# EAGLE library part MOTOR_DRIVER (library motor_driver)
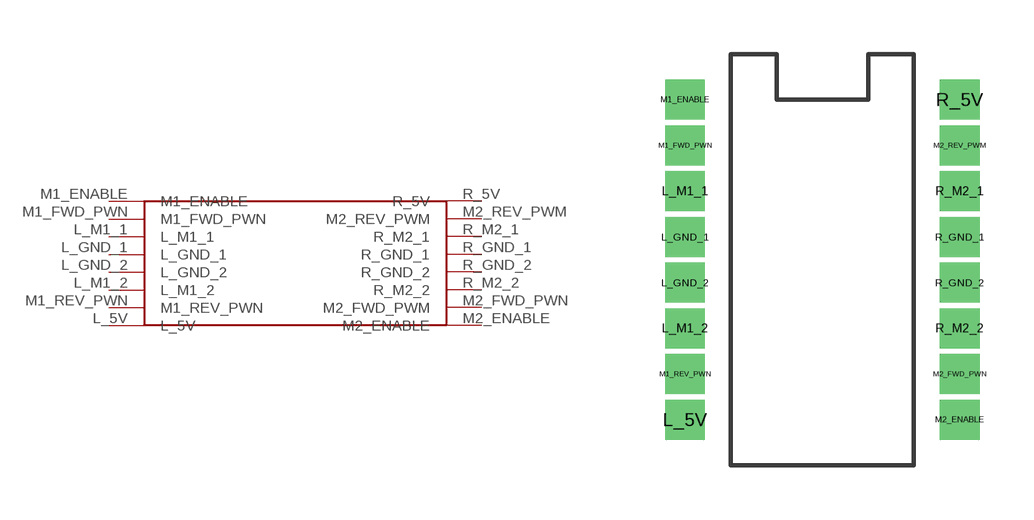
[diagram p0: symbol with the pads of MOTOR_DRIVER; footprint MOTOR_DRIVER]

Designator prefix -

## MOTOR_DRIVER  [MOTOR_DRIVER]
L_5V  L_5V
L_GND_1  L_GND_1
L_GND_2  L_GND_2
L_M1_1  L_M1_1
L_M1_2  L_M1_2
M1_ENABLE  M1_ENABLE
M1_FWD_PWN  M1_FWD_PWN
M1_REV_PWN  M1_REV_PWN
M2_ENABLE  M2_ENABLE
M2_FWD_PWN  M2_FWD_PWM
M2_REV_PWM  M2_REV_PWM
R_5V  R_5V
R_GND_1  R_GND_1
R_GND_2  R_GND_2
R_M2_1  R_M2_1
R_M2_2  R_M2_2

## Footprint MOTOR_DRIVER (pad centres in mm)
drill 0.6 square: L_5V -3.81,-3.81; L_GND_1 -3.81,1.27; L_GND_2 -3.81,0; L_M1_1 -3.81,2.54; L_M1_2 -3.81,-1.27; M1_ENABLE -3.81,5.08; M1_FWD_PWN -3.81,3.81; M1_REV_PWN -3.81,-2.54; M2_ENABLE 3.81,-3.81; M2_FWD_PWN 3.81,-2.54; M2_REV_PWM 3.81,3.81; R_5V 3.81,5.08; R_GND_1 3.81,1.27; R_GND_2 3.81,0; R_M2_1 3.81,2.54; R_M2_2 3.81,-1.27